# Altium footprint library 471001264143.PcbLib: 1 footprints
Each footprint in its own frame and in the unit in brackets; x right, y up, seen from the top. Pads: shape width x height; smd on the part's side, far side on the other; paste and mask are expansions set on the pad; w line width, h text height; cw(c..) or ccw(c..) is an arc to the next point about the centre after c.
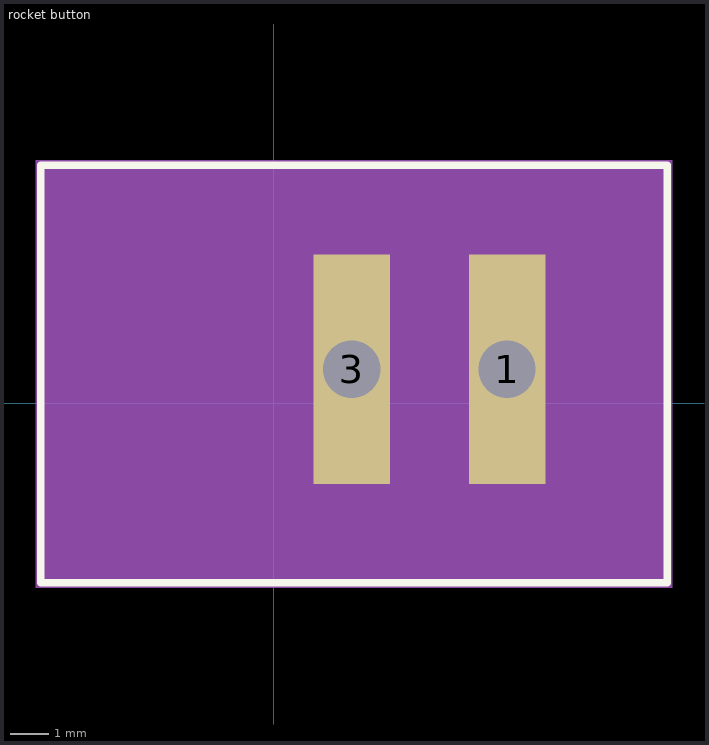
[diagram p0: the footprint, top view; thin cyan lines are the x and y axes]

## rocket button [mm]
pads (2):
  rect 2x6 hole 1.5: 1(6.096,0.889) 3(2.032,0.889)
Top Overlay:
  lines w0.2: -6.096,-4.699 -6.096,6.223 10.287,6.223 10.287,-4.699 -6.096,-4.699
Mechanical 1:
  region: -5.461,5.762 9.652,5.762 9.652,-4.191 -5.461,-4.191
Mechanical 4:
  text "PCB Cutout Area" at -6.758,-4.255 h1.88
  text "PCB Cutout Area" at -6.758,-4.255 h1.88
Mechanical 16:
  region: -6.223,6.35 10.414,6.35 10.414,-4.826 -6.223,-4.826
3D body "10x15mm SPST 2pin on_off G130 Boat Rocker Switch 3A-250V.SLDPRT": height 5.15, standoff -15, extent -5.468,-4.238 9.532,5.762